# EAGLE library part MCP23008_NOPAD (library dooba)
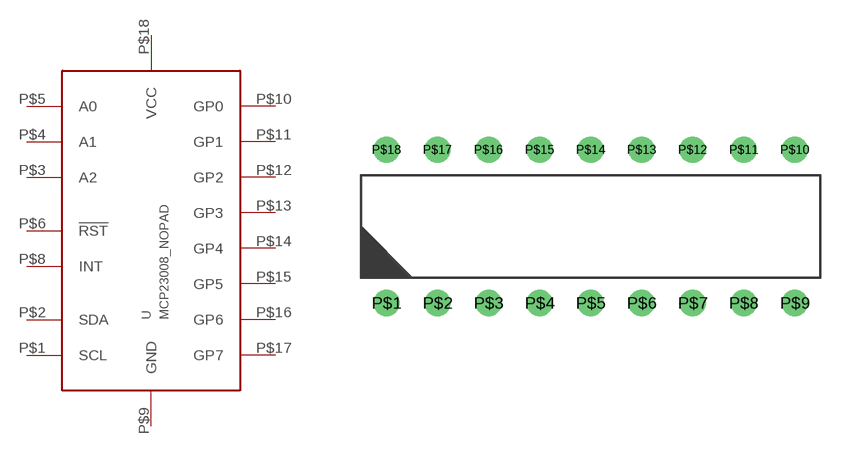
[diagram p64: symbol with the pads of PDIP18; footprint PDIP18]

Designator prefix U

## MCP23008_NOPADPDIP  [PDIP18]
P$1  SCL
P$2  SDA
P$3  A2
P$4  A1
P$5  A0
P$6  !RST
P$8  INT
P$9  GND
P$10  GP0
P$11  GP1
P$12  GP2
P$13  GP3
P$14  GP4
P$15  GP5
P$16  GP6
P$17  GP7
P$18  VCC

## Footprint PDIP18 (pad centres in mm)
drill 0.8: P$1 -10.16,-3.81; P$2 -7.62,-3.81; P$3 -5.08,-3.81; P$4 -2.54,-3.81; P$5 0,-3.81; P$6 2.54,-3.81; P$7 5.08,-3.81; P$8 7.62,-3.81; P$9 10.16,-3.81; P$10 10.16,3.81; P$11 7.62,3.81; P$12 5.08,3.81; P$13 2.54,3.81; P$14 0,3.81; P$15 -2.54,3.81; P$16 -5.08,3.81; P$17 -7.62,3.81; P$18 -10.16,3.81